# EAGLE library part FT232RQ (library future-tech-devices)
USB UART
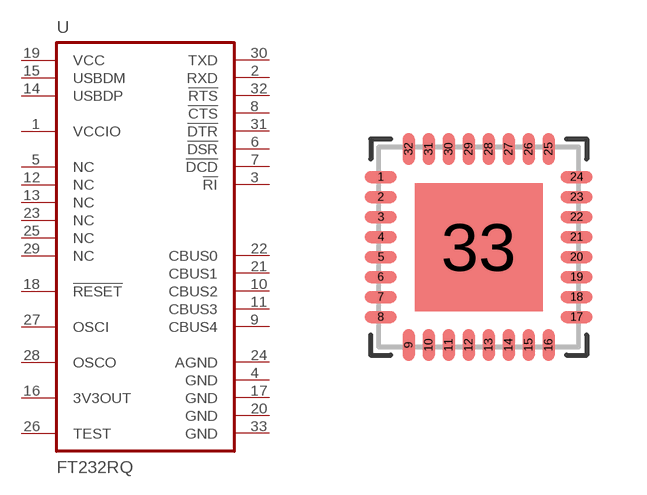
[diagram p5: symbol with the pads of QFN32-5X5; footprint QFN32-5X5]

Designator prefix U

## FT232RQ (P1I: o)  [QFN32-5X5]
1  VCCIO  pwr
2  RXD  in
3  !RI!  in
4  GND  pwr
5  NC  nc
6  !DSR!  in
7  !DCD!  in
8  !CTS!  in
9  CBUS4
10  CBUS2
11  CBUS3
12  NC  nc
13  NC  nc
14  USBDP
15  USBDM
16  3V3OUT  out
17  GND  pwr
18  !RESET!  in
19  VCC  pwr
20  GND  pwr
21  CBUS1
22  CBUS0
23  NC  nc
24  AGND  pwr
25  NC  nc
26  TEST  in
27  OSCI  in
28  OSCO  out
29  NC  nc
30  TXD  out
31  !DTR!  out
32  !RTS!  out
33  GND  pwr

## Footprint QFN32-5X5 (pad centres in mm)
QFN-32 pitch 0.5 mm, body 5x5 mm
smd 0.8 x 0.3: 1 -2.45,1.75; 2 -2.45,1.25; 3 -2.45,0.75; 4 -2.45,0.25; 5 -2.45,-0.25; 6 -2.45,-0.75; 7 -2.45,-1.25; 8 -2.45,-1.75; 17 2.45,-1.75; 18 2.45,-1.25; 19 2.45,-0.75; 20 2.45,-0.25; 21 2.45,0.25; 22 2.45,0.75; 23 2.45,1.25; 24 2.45,1.75
smd 0.3 x 0.8: 9 -1.75,-2.45; 10 -1.25,-2.45; 11 -0.75,-2.45; 12 -0.25,-2.45; 13 0.25,-2.45; 14 0.75,-2.45; 15 1.25,-2.45; 16 1.75,-2.45; 25 1.75,2.45; 26 1.25,2.45; 27 0.75,2.45; 28 0.25,2.45; 29 -0.25,2.45; 30 -0.75,2.45; 31 -1.25,2.45; 32 -1.75,2.45
smd 3.2 x 3.2: 33 0,0